# Altium schematic symbol library AMDC.SchLib: 119 symbols
Pins are listed as number, name and electrical type; pins without a type are passive.

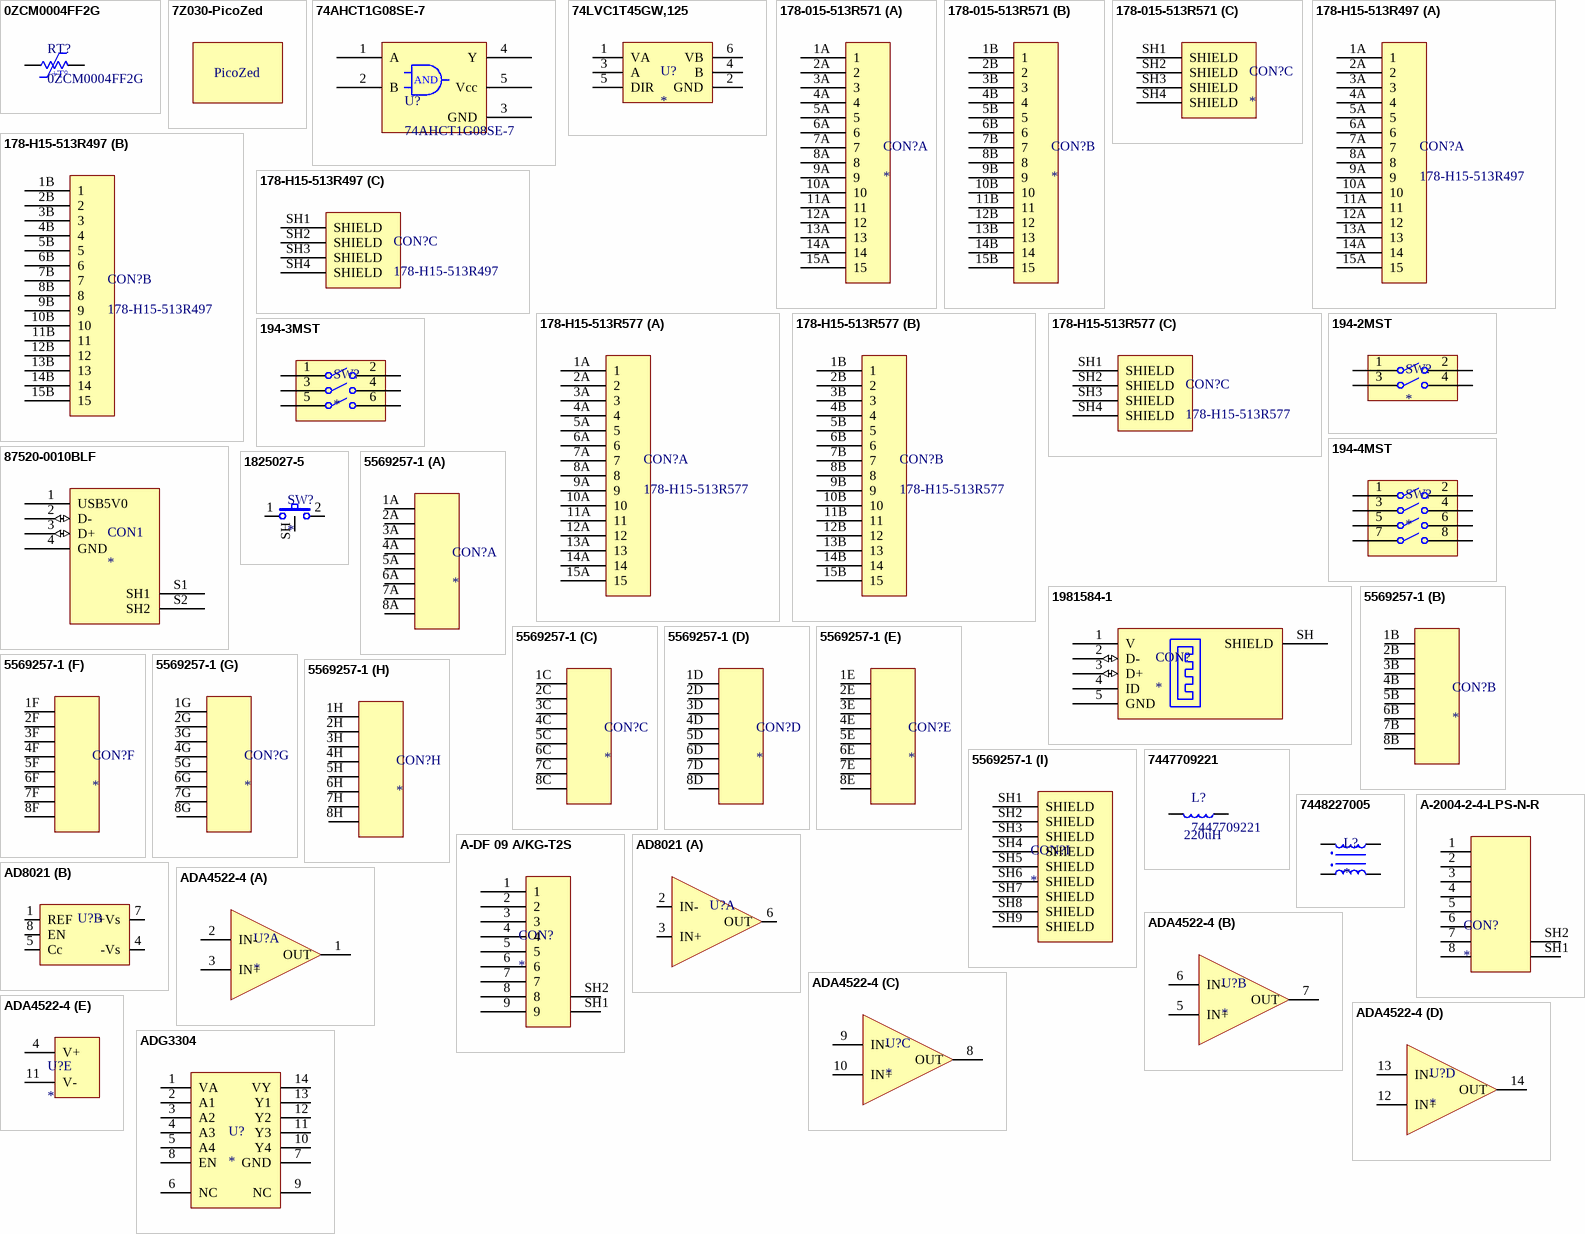
[diagram p0: symbols 0ZCM0004FF2G to ADG3304]

## 0ZCM0004FF2G
designator RT?
PTC RESET FUSE 24V 40MA 0603; Supplier 1: Digi-Key; Supplier Part Number 1: 507-0ZCM0004FF2GCT-ND
footprint PTCC1607X06N (Chip PTC, 2-Leads, Body 1.60x0.73mm, IPC Medium Density)
pins: 1, 2
text: +T°

## 7Z030-PicoZed
designator *  (value not drawn)  (mechanical)
PicoZed 7030 SOM Evaluation Board with ARM Cortex-A9 1 x 10/100/1000 eMMC/QSPI Flash; Supplier 1: Newark; Supplier Part Number 1: 68AH8094
text: PicoZed

## 74AHCT1G08SE-7
designator U?
IC GATE AND 1CH 2-INP SOT353; Supplier 1: Digi-Key; Supplier Part Number 1: 74AHCT1G08SE-7DICT-ND
footprint SOT65P210X110-5N (SOT23, 5-Leads, Body 2.00x2.10mm, Pitch 0.65mm, IPC Medium Density)
pins: 1 A, 2 B, 3 GND, 4 Y, 5 Vcc
text: AND

## 74LVC1T45GW,125
designator U?
TXRX XLATING DUAL 3ST 6TSSOP; Supplier 1: Digi-Key; Supplier Part Number 1: 1727-4560-2-ND
footprint SOT65P210X110-6N (SOT23, 6-Leads, Body 2.00x2.10mm, Pitch 0.65mm, IPC Medium Density)
pins: 1 VA, 2 GND, 3 A, 4 B, 5 DIR, 6 VB

## 178-015-513R571
designator CON?
CONN D-SUB RCPT 15POS R/A SLDR; Manufacturer: NorComp; Manufacturer Part Number: 178-015-513R571; Plating: Tin; Body Material: Steel; Current Rating: 5A; Gender: Female to Female; Connector Type: D-Sub,Receptacle,Signal; Number of Positions: 15; Supplier 1: Digi-Key; Stock 1: 6279; Pricing 1: 1=9.34, 10=8.932, 25=8.12, 50=7.714, 100=7.511, 250=6.699, 500=6.293, 1000=5.5622 (USD); Mount: Through Hole,Edge; Colour: Black; Contact Plating: Gold; Shell Material: Tin; Contact Material: Brass; Housing Colour: Black; Housing Material: Nylon; Material: Metal; Min Operating Temperature: -55°C; Max Operating Temperature: 105°C; Package Quantity: 35; Packaging: Tray; Termination: Through Hole; Number of Contacts: 15; Number of Rows: 2; Features: Shielded; Length: 39mm; Height: 31.8mm; Width: 25.4mm; Lead Free: Lead Free; Flammability Rating: UL94 V-0; REACH SVHC: No SVHC; ComponentLink1URL: https://datasheet.ciiva.com/16342/178-yyy-513r571-16342488.pdf; ComponentLink1Description: https://datasheet.ciiva.com/16342/178-yyy-513r571-16342488.pdf; ComponentLink2URL: https://datasheet.ciiva.com/656/178-yyy-513r571-656074.pdf; ComponentLink2Description: https://datasheet.ciiva.com/656/178-yyy-513r571-656074.pdf; Supplier Part Number 1: 1115FFE-ND
footprint 178-015-513R571 (CONN D-SUB RCPT 15POS R/A SLDR)
part A pins: 1A 1, 2A 2, 3A 3, 4A 4, 5A 5, 6A 6, 7A 7, 8A 8, 9A 9, 10A 10, 11A 11, 12A 12, 13A 13, 14A 14, 15A 15
part B pins: 1B 1, 2B 2, 3B 3, 4B 4, 5B 5, 6B 6, 7B 7, 8B 8, 9B 9, 10B 10, 11B 11, 12B 12, 13B 13, 14B 14, 15B 15
part C pins: SH1 SHIELD, SH2 SHIELD, SH3 SHIELD, SH4 SHIELD

## 178-H15-513R497
designator CON?
CONN D-SUB RCPT/RCPT 15/15POS RA; Supplier 1: Digi-Key; Supplier Part Number 1: NOR1832-ND
footprint 178-H15-513R497 (CONN D-SUB RCPT/RCPT 15/15POS RA)
part A pins: 1A 1, 2A 2, 3A 3, 4A 4, 5A 5, 6A 6, 7A 7, 8A 8, 9A 9, 10A 10, 11A 11, 12A 12, 13A 13, 14A 14, 15A 15
part B pins: 1B 1, 2B 2, 3B 3, 4B 4, 5B 5, 6B 6, 7B 7, 8B 8, 9B 9, 10B 10, 11B 11, 12B 12, 13B 13, 14B 14, 15B 15
part C pins: SH1 SHIELD, SH2 SHIELD, SH3 SHIELD, SH4 SHIELD

## 178-H15-513R577
designator CON?
CONN D-SUB PLUG 15POS R/A SLDR; Supplier 1: Digi-Key; Supplier Part Number 1: NOR1831-ND
footprint 178-H15-513R577 (CONN D-SUB PLUG 15POS R/A SLDR)
part A pins: 1A 1, 2A 2, 3A 3, 4A 4, 5A 5, 6A 6, 7A 7, 8A 8, 9A 9, 10A 10, 11A 11, 12A 12, 13A 13, 14A 14, 15A 15
part B pins: 1B 1, 2B 2, 3B 3, 4B 4, 5B 5, 6B 6, 7B 7, 8B 8, 9B 9, 10B 10, 11B 11, 12B 12, 13B 13, 14B 14, 15B 15
part C pins: SH1 SHIELD, SH2 SHIELD, SH3 SHIELD, SH4 SHIELD

## 194-2MST
designator SW?
SWITCH PIANO DIP SPST 50MA 24V; Supplier 1: Digi-Key; Supplier Part Number 1: CT1942MST-ND
footprint 194-2MST (SWITCH PIANO DIP SPST 50MA 24V)
pins: 1, 2, 3, 4

## 194-3MST
designator SW?
SWITCH PIANO DIP SPST 50MA 24V; Supplier 1: Digi-Key; Supplier Part Number 1: CT1943MST-ND
footprint 194-3MST (SWITCH PIANO DIP SPST 50MA 24V)
pins: 1, 2, 3, 4, 5, 6

## 194-4MST
designator SW?
SWITCH PIANO DIP SPST 50MA 24V; Supplier 1: Digi-Key; Supplier Part Number 1: CT1944MST-ND
footprint 194-4MST (SWITCH PIANO DIP SPST 50MA 24V)
pins: 1, 2, 3, 4, 5, 6, 7, 8

## 87520-0010BLF
designator CON1
USB - A USB 2.0 Receptacle Connector 4 Position Through Hole, Right Angle; Supplier 1: Digi-Key; Supplier Part Number 1: 609-1045-ND
footprint 87520-0010BLF
pins: 1 USB5V0, 2 D- (io), 3 D+ (io), 4 GND, S1 SH1, S2 SH2

## 1825027-5
designator SW?
SWITCH TACTILE SPST-NO 0.05A 24V; Supplier 1: Digi-Key; Supplier Part Number 1: 450-1662-ND
footprint 1825027-5 (SWITCH TACTILE SPST-NO 0.05A 24V)
pins: 1, 2, SH

## 1981584-1
designator CON?
CONN RCPT MICRO USB TYPE AB; Supplier 1: Digi-Key; Supplier Part Number 1: A97799TR-ND
footprint 1981584-1 (CONN RCPT MICRO USB TYPE AB)
pins: 1 V, 2 D- (io), 3 D+ (io), 4 ID, 5 GND, SH SHIELD

## 5569257-1
designator CON?
CONN MOD JACK 8P8C R/A SHIELDED; Manufacturer: TE Connectivity; Manufacturer Part Number: 5569257-1; Max Voltage Rating (AC): 150V; Number of Ports: 8; Number of Positions Loaded: 64; Gender: Female; Direction: Up and Down; Keyed: No; PCB Mounting Orientation: Right Angle; Pitch: 2.54mm; Tail Length: 3.56mm; PCB Thickness: 1.57mm; Approvals: UL,CSA; Supplier 1: Digi-Key; Supplier Part Number 1: A115463-ND; Stock 1: 80; Pricing 1: 1=23.07, 10=20.825, 25=19.952, 50=18.705, 100=18.0815, 250=17.08392, 500=16.5851 (USD); Contact Material: Bronze; Contact Plating: Gold; Housing Colour: Black; Housing Material: Polyester; Min Operating Temperature: -40°C; Max Operating Temperature: 80°C; Termination: Solder; Orientation: Right Angle; Package Quantity: 10; Packaging: Tray; Number of Rows: 2; Shielding: Shielded; Number of Positions: 8; Number of Contacts: 64; Connector Type: Jack; Length: 59.18mm; Width: 59.18mm; Depth: 28.7mm; Radiation Hardening: No; Lead Free: Lead Free; ELV: Compliant; Flammability Rating: UL94 V-0; ComponentLink1URL: https://datasheet.ciiva.com/18490/eng-cd-5569257-a1-18490850.pdf; ComponentLink1Description: https://datasheet.ciiva.com/18490/eng-cd-5569257-a1-18490850.pdf; ComponentLink2URL: https://datasheet.ciiva.com/687/eng-cd-5569257-a1-687411.pdf; ComponentLink2Description: https://datasheet.ciiva.com/687/eng-cd-5569257-a1-687411.pdf; ComponentLink3URL: https://datasheet.ciiva.com/16398/5569257-1-16398308.pdf; ComponentLink3Description: https://datasheet.ciiva.com/16398/5569257-1-16398308.pdf; ComponentLink4URL: https://datasheet.ciiva.com/14619/70042889-14619676.pdf; ComponentLink4Description: https://datasheet.ciiva.com/14619/70042889-14619676.pdf
footprint 5569257-1 (CONN MOD JACK 8P8C R/A SHIELDED)
part A pins: 1A 79, 2A 79, 3A 79, 4A 79, 5A 79, 6A 79, 7A 79, 8A 79
part B pins: 1B 79, 2B 79, 3B 79, 4B 79, 5B 79, 6B 79, 7B 79, 8B 79
part C pins: 1C 79, 2C 79, 3C 79, 4C 79, 5C 79, 6C 79, 7C 79, 8C 79
part D pins: 1D 79, 2D 79, 3D 79, 4D 79, 5D 79, 6D 79, 7D 79, 8D 79
part E pins: 1E 79, 2E 79, 3E 79, 4E 79, 5E 79, 6E 79, 7E 79, 8E 79
part F pins: 1F 79, 2F 79, 3F 79, 4F 79, 5F 79, 6F 79, 7F 79, 8F 79
part G pins: 1G 79, 2G 79, 3G 79, 4G 79, 5G 79, 6G 79, 7G 79, 8G 79
part H pins: 1H 79, 2H 79, 3H 79, 4H 79, 5H 79, 6H 79, 7H 79, 8H 79
part I pins: SH1 SHIELD, SH2 SHIELD, SH3 SHIELD, SH4 SHIELD, SH5 SHIELD, SH6 SHIELD, SH7 SHIELD, SH8 SHIELD, SH9 SHIELD

## 7447709221
designator L?  value 220uH
FIXED IND 220UH 1.8A 300 MOHM; Supplier Part Number 1: 732-1696-1-ND; Supplier 1: Digi-Key
footprint 7447709221 (FIXED IND 220UH 1.8A 300 MOHM)
pins: 1, 2

## 7448227005
designator L?
CMC 450UH 6.5A 2LN TH; Supplier 1: Digi-Key; Supplier Part Number 1: 732-3883-ND
footprint 7448227005 (CMC 450UH 6.5A 2LN TH)
pins: 1, 2, 3, 4

## A-2004-2-4-LPS-N-R
designator CON?
CONN MOD JACK 8P8C R/A SHIELDED; Supplier 1: Digi-Key; Supplier Part Number 1: AE10387-ND
footprint A-2004-2-4-LPS-N-R (CONN MOD JACK 8P8C R/A SHIELDED)
pins: 1 79, 2 79, 3 79, 4 79, 5 79, 6 79, 7 79, 8 79, SH1 79, SH2 79

## A-DF 09 A/KG-T2S
designator CON?
CONN D-SUB RCPT 9POS R/A SOLDER; Supplier 1: Digi-Key; Supplier Part Number 1: AE10921-ND
footprint A-DF 09 A/KG-T2S (CONN D-SUB RCPT 9POS R/A SOLDER)
pins: 1, 2, 3, 4, 5, 6, 7, 8, 9, SH1 79, SH2 79

## AD8021
designator U?
IC OPAMP VFB 560MHZ 8MSOP; Supplier 1: Digi-Key; Supplier Part Number 1: AD8021ARZ-ND
footprint SOIC8_N (8-Pin Small Outline Integrated Circuit Package (SOIC8), IPC Medium Density)
part A pins: 2 IN-, 3 IN+, 6 OUT
part B pins: 1 REF, 4 -Vs, 5 Cc, 7 +Vs, 8 EN

## ADA4522-4
designator U?
Manufacturer: Analog Devices; Manufacturer Part Number: ADA4522-4ARUZ-RL; Number of Circuits: 4; Slew Rate: 1.7V/µs; Gain Bandwidth Product: 2.7MHz; Input Bias Current: 50pA; Input Offset Voltage (Vos): 1.5uV; Operating Supply Current: 830uA; Output Current per Channel: 32mA; Max Dual Supply Voltage: 27.5V; Voltage Gain: 137dB; Common Mode Rejection Ratio: 140dB; Power Supply Rejection Ratio (PSRR): 150dB; Min Supply Voltage: 4.5V; Min Dual Supply Voltage: 2.25V; Max Supply Voltage: 55V; Mount: Surface Mount; Case/Package: TSSOP; Number of Pins: 14; Contact Plating: Tin,Matte; Min Operating Temperature: -40°C; Max Operating Temperature: 125°C; Packaging: Tape and Reel; Lead Free: Contains Lead; ComponentLink1URL: http://www.mouser.com/ds/2/609/ADA4522-1_4522-2_4522-4-914641.pdf; ComponentLink1Description: http://www.mouser.com/ds/2/609/ADA4522-1_4522-2_4522-4-914641.pdf; ComponentLink2URL: http://www.analog.com/media/en/technical-documentation/data-sheets/ADA4522-1_4522-2_4522-4.pdf; ComponentLink2Description: http://www.analog.com/media/en/technical-documentation/data-sheets/ADA4522-1_4522-2_4522-4.pdf; Supplier 1: Digi-Key; Stock 1: 1071; Pricing 1: 1=8.7, 10=7.861, 100=6.5086, 500=5.66758, 1000=4.93628 (USD); Supplier Part Number 1: ADA4522-4ARUZ-RLCT-ND
footprint TSSOP-14
part A pins: 1 OUT, 2 IN-, 3 IN+
part B pins: 5 IN+, 6 IN-, 7 OUT
part C pins: 8 OUT, 9 IN-, 10 IN+
part D pins: 12 IN+, 13 IN-, 14 OUT
part E pins: 4 V+, 11 V-

## ADG3304
designator U?
IC XLATR BIDIR V-LVL 4CH 14TSSOP; Supplier 1: Digi-Key; Supplier Part Number 1: ADG3304BRUZ-REEL7-ND
pins: 1 VA, 2 A1, 3 A2, 4 A3, 5 A4, 6 NC, 7 GND, 8 EN, 9 NC, 10 Y4, 11 Y3, 12 Y2, 13 Y1, 14 VY

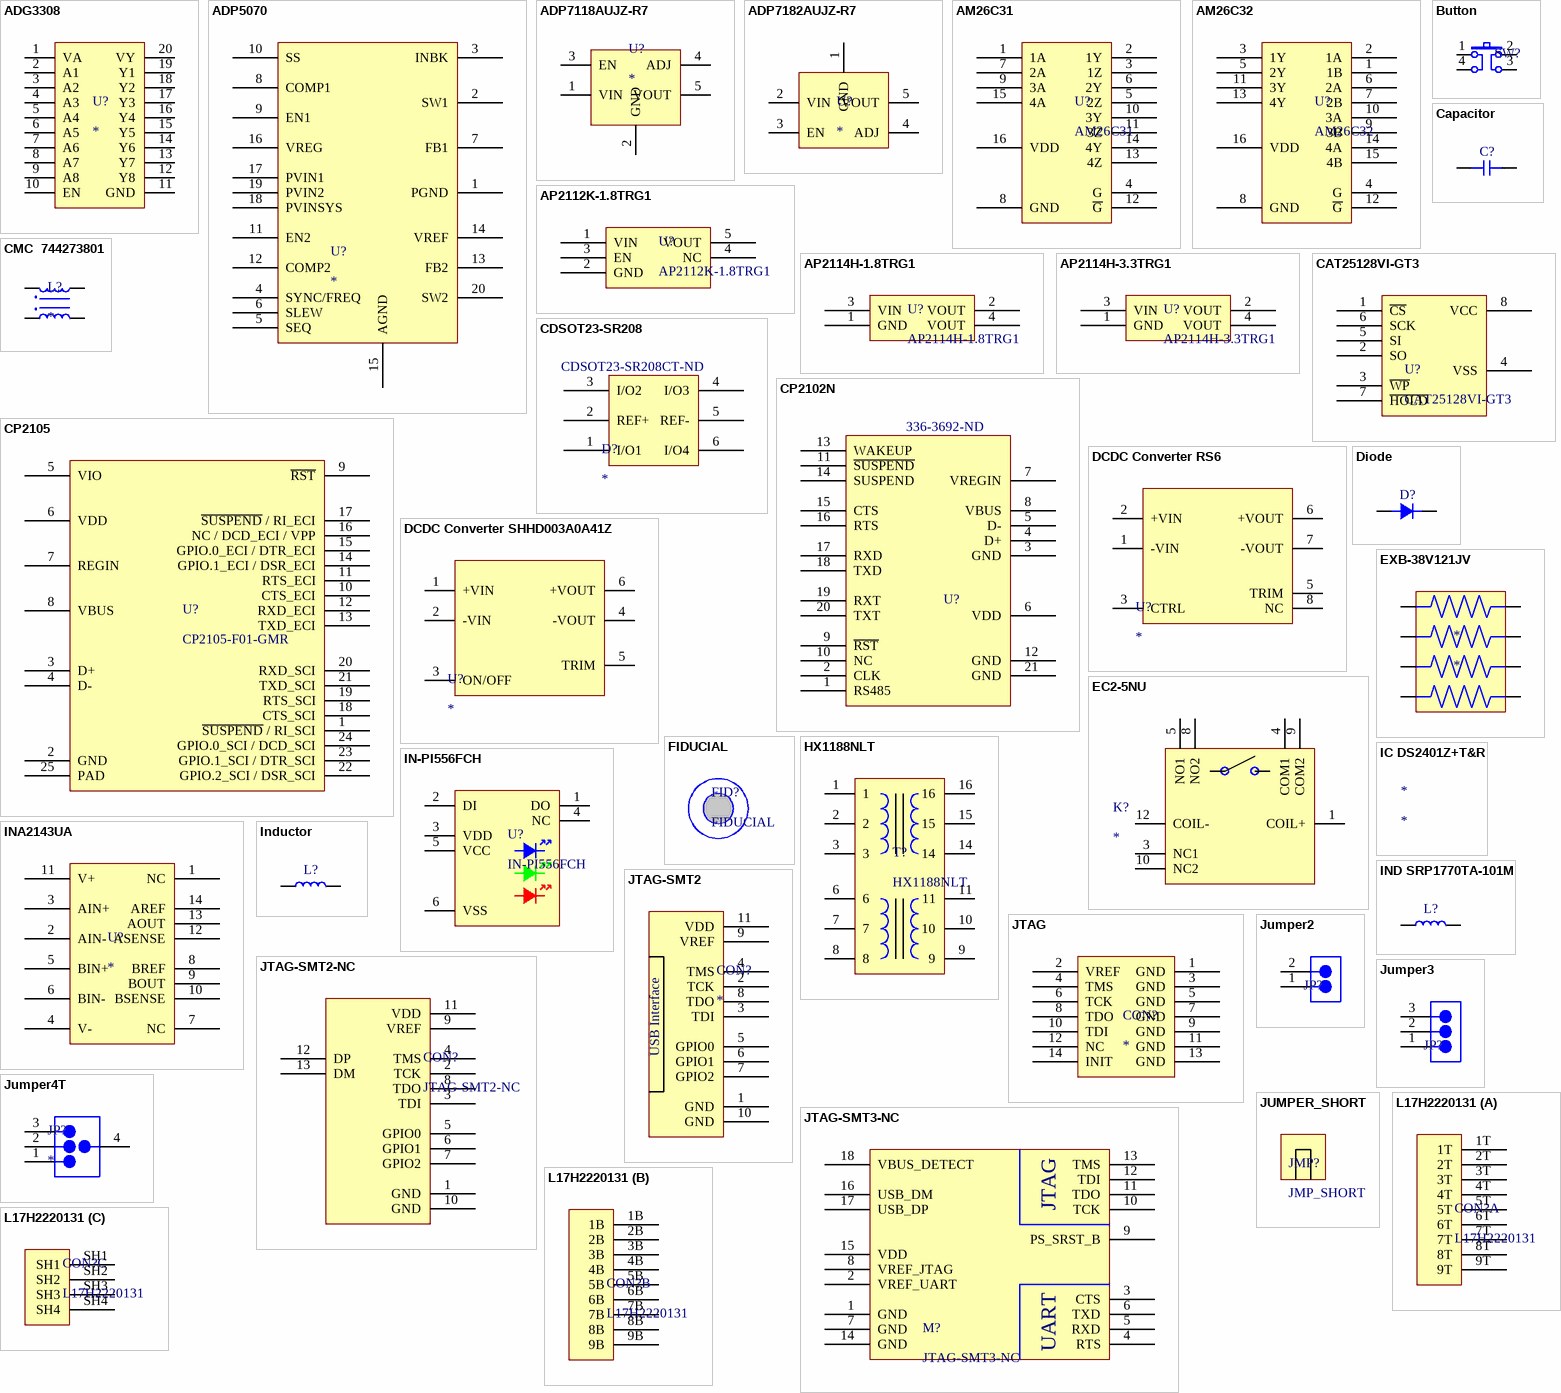
[diagram p1: symbols ADG3308 to L17H2220131]

## ADG3308
designator U?
IC XLATOR 8CH 1.2-5.5V 20TSSOP; Supplier 1: Digi-Key; Supplier Part Number 1: ADG3308BRUZ-ND
footprint TSSOP-20
pins: 1 VA, 2 A1, 3 A2, 4 A3, 5 A4, 6 A5, 7 A6, 8 A7, 9 A8, 10 EN, 11 GND, 12 Y8, 13 Y7, 14 Y6, 15 Y5, 16 Y4, 17 Y3, 18 Y2, 19 Y1, 20 VY

## ADP5070
designator U?
pins: 1 PGND, 2 SW1, 3 INBK, 4 SYNC/FREQ, 5 SEQ, 6 SLEW, 7 FB1, 8 COMP1, 9 EN1, 10 SS, 11 EN2, 12 COMP2, 13 FB2, 14 VREF, 15 AGND, 16 VREG, 17 PVIN1, 18 PVINSYS, 19 PVIN2, 20 SW2

## ADP7118AUJZ-R7
designator U?
IC REG LINEAR 200MA TSOT23-5; Supplier 1: Digi-Key; Supplier Part Number 1: ADP7118AUJZ-R7-ND
footprint TSOT-23 (5-Lead Plastic TSOT-23)
pins: 1 VIN, 2 GND, 3 EN, 4 ADJ, 5 VOUT

## ADP7182AUJZ-R7
designator U?
IC REG LINEAR 200MA 5TSOT; Supplier 1: Digi-Key; Supplier Part Number 1: ADP7182AUJZ-R7-ND
footprint TSOT-23 (5-Lead Plastic TSOT-23)
pins: 1 GND, 2 VIN, 3 EN, 4 ADJ, 5 VOUT

## AM26C31
designator U?
IC DRIVER 4/0 16TSSOP; Supplier 1: Digi-Key; Supplier Part Number 1: 296-30087-1-ND
footprint TSOP65P640X120-16N (TSOP, 16-Leads, Body 5.00x4.40mm, Pitch 0.65mm, IPC Medium Density)
pins: 1 1A, 2 1Y, 3 1Z, 4 G, 5 2Z, 6 2Y, 7 2A, 8 GND, 9 3A, 10 3Y, 11 3Z, 12 ~{G}, 13 4Z, 14 4Y, 15 4A, 16 VDD

## AM26C32
designator U?
IC RCVR RS422 QUAD DIFF 16TSSOP; Supplier 1: Digi-Key; Supplier Part Number 1: 296-30088-1-ND
footprint TSOP65P640X120-16N (TSOP, 16-Leads, Body 5.00x4.40mm, Pitch 0.65mm, IPC Medium Density)
pins: 1 1B, 2 1A, 3 1Y, 4 G, 5 2Y, 6 2A, 7 2B, 8 GND, 9 3B, 10 3A, 11 3Y, 12 ~{G}, 13 4Y, 14 4A, 15 4B, 16 VDD

## AP2112K-1.8TRG1
designator U?
IC REG LINEAR 1.8V 600MA SOT25; Supplier 1: Digi-Key; Supplier Part Number 1: AP2112K-1.8TRG1DICT-ND
footprint SOT95P280X145-5N (SOT23, 5-Leads, Body 2.90x2.80mm, Pitch 0.95mm, IPC Medium Density)
pins: 1 VIN, 2 GND, 3 EN, 4 NC, 5 VOUT

## AP2114H-1.8TRG1
designator U?
IC REG LINEAR 1.8V 1A SOT223; Supplier 1: Digi-Key; Supplier Part Number 1: AP2114H-1.8TRG1DICT-ND
footprint SOT230P700X180-4N (SOT223, 4-Leads, Body 6.50x7.00mm (avg), Pitch 2.30mm, IPC Medium Density)
pins: 1 GND, 2 VOUT, 3 VIN, 4 VOUT

## AP2114H-3.3TRG1
designator U?
IC REG LINEAR 3.3V 1A SOT223; Supplier 1: Digi-Key; Supplier Part Number 1: AP2114H-3.3TRG1DICT-ND
footprint SOT230P700X180-4N (SOT223, 4-Leads, Body 6.50x7.00mm (avg), Pitch 2.30mm, IPC Medium Density)
pins: 1 GND, 2 VOUT, 3 VIN, 4 VOUT

## Button
designator SW?  (value not drawn)
pins: 1 74, 2 74, 3 74, 4 74

## Capacitor
designator C?  (value not drawn)
Capacitor
simulation model CAP (Capacitor)
footprint 0603-CAP
pins: 1, 2

## CAT25128VI-GT3
designator U?
IC EEPROM 128K SPI 20MHZ 8SOIC; Supplier 1: Digi-Key; Supplier Part Number 1: CAT25128VI-GT3OSCT-ND
footprint SOIC127P600X175-8N (SOIC, 8-Leads, Body 4.90x3.90mm, Pitch 1.27mm, IPC Medium Density)
pins: 1 ~{CS}, 2 SO, 3 ~{WP}, 4 VSS, 5 SI, 6 SCK, 7 ~{HOLD}, 8 VCC

## CDSOT23-SR208
designator D?  Supplier Part Number 1: CDSOT23-SR208CT-ND
TVS DIODE 20VWM SMD; Supplier 1: Digi-Key
footprint SOT23-6 (SOT-457/SC-74; 6 Leads; Body 3 x 3 mm, inc. leads (LxW max))
pins: 1 I/O1, 2 REF+, 3 I/O2, 4 I/O3, 5 REF-, 6 I/O4

## CMC  744273801
designator L?
CMC 450UH 6.5A 2LN TH; Manufacturer: Wurth Electronics; Manufacturer Part Number: 744273801; Core Material: Ferrite; Impedance: 800R; Inductance Tolerance: 25%; Number of Lines: 2; Inductance: 9uh; Resistance: 11mR; Current Rating: 3.5A; Test Frequency: 100kHz; Voltage Rating (DC): 80V; Supplier 1: Digi-Key; Stock 1: 3927; Pricing 1: 1=3.37, 10=3.125, 50=2.822, 100=2.722, 500=2.52 (USD); Mount: Surface Mount; Case/Package: SMD/SMT; Number of Pins: 4; Min Operating Temperature: -40°C; Max Operating Temperature: 125°C; Packaging: Tape and Reel; Package Quantity: 1000; Tolerance: 25%; Current: 3.5A; DC Resistance (DCR): 11mR; Max DC Current: 3.5A; Termination: SMD/SMT; Series Resistance: 11mR; Length: 9.5mm; Height: 5.3mm; Width: 8.3mm; Depth: 8.3mm; REACH SVHC: No SVHC; ComponentLink1URL: https://datasheet.ciiva.com/6215/744273801-6215152.pdf; ComponentLink1Description: https://datasheet.ciiva.com/6215/744273801-6215152.pdf; ComponentLink2URL: https://datasheet.ciiva.com/6048/1735681-6048514.pdf; ComponentLink2Description: https://datasheet.ciiva.com/6048/1735681-6048514.pdf; ComponentLink3URL: https://datasheet.ciiva.com/6215/744273801-6215157.pdf; ComponentLink3Description: https://datasheet.ciiva.com/6215/744273801-6215157.pdf; ComponentLink4URL: https://datasheet.ciiva.com/7764/1735681-7764966.pdf; ComponentLink4Description: https://datasheet.ciiva.com/7764/1735681-7764966.pdf; ComponentLink5URL: https://datasheet.ciiva.com/11800/0900766b80f886be-11800844.pdf; ComponentLink5Description: https://datasheet.ciiva.com/11800/0900766b80f886be-11800844.pdf; ComponentLink6URL: https://datasheet.ciiva.com/14123/744273801-eng-tds-14123645.pdf; ComponentLink6Description: https://datasheet.ciiva.com/14123/744273801-eng-tds-14123645.pdf; ComponentLink7URL: https://datasheet.ciiva.com/4952/744273801-77788-4952319.pdf; ComponentLink7Description: https://datasheet.ciiva.com/4952/744273801-77788-4952319.pdf; ComponentLink8URL: https://datasheet.ciiva.com/48690/001087412-da-01-ml-we-sl5-hc-stromk-smd-lin-fil-74427-de-en-48690507.pdf; ComponentLink8Description: https://datasheet.ciiva.com/48690/001087412-da-01-ml-we-sl5-hc-stromk-smd-lin-fil-74427-de-en-48690507.pdf; Supplier Part Number 1: 732-2215-6-ND
footprint CMC 744273801 (CMC 9UH 3.5A 2LN 800 OHM SMD)
pins: 1, 2, 3, 4

## CP2102N
designator U?  Supplier Part Number 1: 336-3692-ND
IC BRIDGE USB TO UART 20QFN; Supplier 1: Digi-Key
footprint QFN20
pins: 1 RS485, 2 CLK, 3 GND, 4 D+, 5 D-, 6 VDD, 7 VREGIN, 8 VBUS, 9 ~{RST}, 10 NC, 11 ~{SUSPEND}, 12 GND, 13 WAKEUP, 14 SUSPEND, 15 CTS, 16 RTS, 17 RXD, 18 TXD, 19 RXT, 20 TXT, 21 GND

## CP2105
designator U?, comment CP2105-F01-GMR
IC SGL USB-DL UART BRIDGE 24QFN; Supplier 1: Digi-Key; Supplier Part Number 1: CP2105-F01-GMRCT-ND
footprint QFN50P400X400X80_HS-25N (QFN, 24-Leads, Body 4.00x4.00mm, Pitch 0.50mm, Thermal Pad 2.68x2.68mm, IPC Medium Density)
pins: 1 ~{SUSPEND} / RI_SCI, 2 GND, 3 D+, 4 D-, 5 VIO, 6 VDD, 7 REGIN, 8 VBUS, 9 ~{RST}, 10 CTS_ECI, 11 RTS_ECI, 12 RXD_ECI, 13 TXD_ECI, 14 GPIO.1_ECI / DSR_ECI, 15 GPIO.0_ECI / DTR_ECI, 16 NC / DCD_ECI / VPP, 17 ~{SUSPEND} / RI_ECI, 18 CTS_SCI, 19 RTS_SCI, 20 RXD_SCI, 21 TXD_SCI, 22 GPIO.2_SCI / DSR_SCI, 23 GPIO.1_SCI / DTR_SCI, 24 GPIO.0_SCI / DCD_SCI, 25 PAD

## DCDC Converter RS6
designator U?
Recom RS6
footprint RS6 DCDC
pins: 1 -VIN, 2 +VIN, 3 CTRL, 5 TRIM, 6 +VOUT, 7 -VOUT, 8 NC

## DCDC Converter SHHD003A0A41Z
designator U?
DC/DC CONVERTER 15W 5V 3A; Manufacturer: GE; Manufacturer Part Number: SHHD003A0A41Z; Number of Outputs: 1; Isolation: Isolated; Efficiency: 87%; Isolation Voltage: 2.25kV; Min Input Voltage: 18V; Max Input Voltage: 75V; Supplier 1: Digi-Key; Stock 1: 1272; Pricing 1: 1=18.55, 5=18.404, 10=18.261, 25=17.9756, 50=17.1196, 100=15.6929, 250=15.40756, 500=15.1793 (USD); Mount: Through Hole; Case/Package: Module; Number of Pins: 6; Weight: 0.282192oz; Min Operating Temperature: -40°C; Max Operating Temperature: 85°C; Output Current: 3A; Output Voltage: 5V; Packaging: Bulk; Package Quantity: 75; Output Power: 15W; Voltage - Output 1: 5V; Current - Output 1: 3A; Max Output Current: 3A; Max Power Dissipation: 15W; Features: UVLO,OVP; Length: 1.1inch; Height: 0.34inch; Depth: 24.4mm; Width: 0.96inch; ComponentLink1URL: https://datasheet.ciiva.com/13119/shhd003a0a-13119248.pdf; ComponentLink1Description: https://datasheet.ciiva.com/13119/shhd003a0a-13119248.pdf; ComponentLink2URL: https://datasheet.ciiva.com/6224/shhd003a0a-6224821.pdf; ComponentLink2Description: https://datasheet.ciiva.com/6224/shhd003a0a-6224821.pdf; Supplier Part Number 1: 555-1311-ND
footprint DCDC SHHD003A0A41-SRZ (DC/DC CONVERTER 15W 5V 3A)
pins: 1 +VIN, 2 -VIN, 3 ON/OFF, 4 -VOUT, 5 TRIM, 6 +VOUT

## Diode
designator D?  (value not drawn)
simulation model DIODE (Default Diode)
pins: 54 A, 55 C

## EC2-5NU
designator K?
RELAY GEN PURPOSE DPDT 2A 250V; Supplier 1: Digi-Key; Supplier Part Number 1: 399-11052-5-ND
footprint EC2-5NU (RELAY GEN PURPOSE DPDT 2A 250V)
pins: 1 COIL+, 3 NC1, 4 COM1, 5 NO1, 8 NO2, 9 COM2, 10 NC2, 12 COIL-

## EXB-38V121JV
designator *
Res Thick Film Array 120 Ohm 5% ±200ppm/C ISOL 8-Pin 1206(4 X 0603) Convex SMD Automotive T/R; Manufacturer: Panasonic; Manufacturer Part Number: EXB-38V121JV; Value: 120R; Voltage Rating: 50V; Circuit Type: Isolated; Number of Resistors: 4; Power Per Element: 62.5mW; Temperature Coefficient: 200ppm/°C; Number of Contacts: 8; Voltage Rating (DC): 100V; Supplier: Digi-Key; Supplier Part Number: Y9121CT-ND; RoHS: Yes; Category: Resistor Arrays; Stock: 129474; Pricing: 1=0.13, 10=0.113, 25=0.078, 50=0.0608, 100=0.0434, 250=0.03388, 500=0.02692, 1000=0.01911 (USD); Mounting Technology: Surface Mount; Case/Package: 1206; Pins: 8; Case Code (Metric): 3216; Case Code (Imperial): 1206; Weight: 7.1E-05oz; Min Operating Temperature: -55°C; Max Operating Temperature: 125°C; Package Quantity: 1; Packaging: Tape and Reel; Tolerance: 5%; Termination: SMD/SMT; Series: EXB; Technology: THICK FILM; Length: 0.126inch; Width: 1.6mm; Height: 0.024inch; Terminal Pitch: 0.8mm; Radiation Hardening: No; Lead Free: Lead Free; RoHS Compliant: Yes; ComponentLink1URL: https://datasheet.ciiva.com/30227/aoc0000ce1-30227247.pdf?src-supplier=Onlinecomponents.com; ComponentLink1Description: https://datasheet.ciiva.com/30227/aoc0000ce1-30227247.pdf?src-supplier=Onlinecomponents.com
footprint EXB-38V121JV
pins: 1, 2, 3, 4, 5, 6, 7, 8

## FIDUCIAL
designator FID?  (no BOM)
footprint FID_1mm

## HX1188NLT
designator T?
XFRMR MAGNETIC 1PORT 1:1 10/100; Supplier 1: Digi-Key; Supplier Part Number 1: 553-1536-1-ND
footprint HX1188NLT (XFRMR MAGNETIC 1PORT 1:1 10/100)
pins: 1, 2, 3, 6, 7, 8, 9, 10, 11, 14, 15, 16

## IC DS2401Z+T&R
designator *

## IN-PI556FCH
designator U?
LED RGB 5050 SMD; Supplier 1: Digi-Key; Supplier Part Number 1: 1830-1107-1-ND
footprint IN-PI556FCH (LED RGB 5050 SMD)
pins: 1 DO, 2 DI, 3 VDD, 4 NC, 5 VCC, 6 VSS

## INA2143UA
designator U?
IC OPAMP DIFF 150KHZ 14SOIC; Supplier 1: Digi-Key; Supplier Part Number 1: INA2143UA-ND
footprint SOIC16_N (SOIC, 16-Leads, Body 9.9x3.9mm, Pitch 1.27mm, IPC Medium Density)
footprint SOIC127P600X175-14N (SOIC, 14-Leads, Body 8.65x3.90mm, Pitch 1.27mm, IPC Medium Density)
pins: 1 NC, 2 AIN-, 3 AIN+, 4 V-, 5 BIN+, 6 BIN-, 7 NC, 8 BREF, 9 BOUT, 10 BSENSE, 11 V+, 12 ASENSE, 13 AOUT, 14 AREF

## IND SRP1770TA-101M
designator L?  (value not drawn)
FIXED IND 100UH 5.3A 118 MOHM; Manufacturer: Bourns; Manufacturer Part Number: SRP1770TA-101M; Core Material: Carbonyl Powder; Saturation Current: 6.5A; Shielding: Shielded; DC Resistance (DCR): 118mR; Self Resonant Frequency: 2MHz; Test Frequency: 100kHz; Tolerance: 20%; Supplier 1: Digi-Key; Stock 1: 2524; Pricing 1: 1=4.1, 10=3.755, 100=2.4581 (USD); Mount: Surface Mount; Case/Package: Nonstandard; Min Operating Temperature: -40°C; Max Operating Temperature: 150°C; Packaging: Cut Tape; Composition: Wirewound; Inductance: 100uh; Current Rating: 5.3A; RMS Current (Irms): 5.3A; Inductance Tolerance: 20%; Length: 0.666inch; Width: 0.666inch; Height - Seated (Max): 0.276inch; REACH SVHC: No SVHC; ComponentLink1URL: http://www.farnell.com/datasheets/1955470.pdf; ComponentLink1Description: http://www.farnell.com/datasheets/1955470.pdf; ComponentLink2URL: http://www.bourns.com/docs/Product-Datasheets/SRP1770TA.pdf; ComponentLink2Description: http://www.bourns.com/docs/Product-Datasheets/SRP1770TA.pdf; Supplier Part Number 1: SRP1770TA-101MDKR-ND
simulation model Model Name (Model Description)
footprint IND - SRP1770TA-101M (FIXED IND 100UH 5.3A 118 MOHM)
pins: 1, 2

## Inductor
designator L?  (value not drawn)
simulation model Model Name (Model Description)
pins: 52, 53

## JTAG
designator CON?
footprint PIN_HEADER_2x7
pins: 1 GND, 2 VREF, 3 GND, 4 TMS, 5 GND, 6 TCK, 7 GND, 8 TDO, 9 GND, 10 TDI, 11 GND, 12 NC, 13 GND, 14 INIT

## JTAG-SMT2
designator CON?
footprint JTAG-SMT2
pins: 1 GND, 2 TCK, 3 TDI, 4 TMS, 5 GPIO0, 6 GPIO1, 7 GPIO2, 8 TDO, 9 VREF, 10 GND, 11 VDD
text: USB Interface

## JTAG-SMT2-NC
designator CON?
MOD PROGRAMMING JTAG-SMT2-NC; Supplier 1: Digi-Key; Supplier Part Number 1: 1286-1192-ND
footprint JTAG-SMT2-NC
pins: 1 GND, 2 TCK, 3 TDI, 4 TMS, 5 GPIO0, 6 GPIO1, 7 GPIO2, 8 TDO, 9 VREF, 10 GND, 11 VDD, 12 DP, 13 DM

## JTAG-SMT3-NC
designator M?
JTAG-SMT3-NC: SURFACE-MOUNT PROG; Supplier 1: Digi-Key; Supplier Part Number 1: 1286-1196-ND
footprint JTAG-SMT3-NC
pins: 1 GND, 2 VREF_UART, 3 CTS, 4 RTS, 5 RXD, 6 TXD, 7 GND, 8 VREF_JTAG, 9 PS_SRST_B, 10 TCK, 11 TDO, 12 TDI, 13 TMS, 14 GND, 15 VDD, 16 USB_DM, 17 USB_DP, 18 VBUS_DETECT
text: JTAG; UART

## Jumper2
designator JP?  (value not drawn)
footprint PIN_HEADER_1x2
pins: 1 76, 2 75

## Jumper3
designator JP?  (value not drawn)
footprint PIN_HEADER_1X3
pins: 1 76, 2 75, 3 75

## Jumper4T
designator JP?
footprint PIN_HEADER_1X3T
pins: 1 76, 2 75, 3 75, 4 75

## JUMPER_SHORT
designator JMP?, comment JMP_SHORT  (mechanical)
CONN JUMPER SHORTING .100" GOLD; Supplier 1: Digi-Key; Supplier Part Number 1: S9337-ND

## L17H2220131
designator CON?
CONN D-SUB RCPT 9POS R/A SLDR; Supplier 1: Digi-Key; Supplier Part Number 1: L17H2220131-ND
footprint L17H2220131 (CONN D-SUB RCPT 9POS R/A SLDR)
part A pins: 1T, 2T, 3T, 4T, 5T, 6T, 7T, 8T, 9T
part B pins: 1B, 2B, 3B, 4B, 5B, 6B, 7B, 8B, 9B
part C pins: SH1, SH2, SH3, SH4

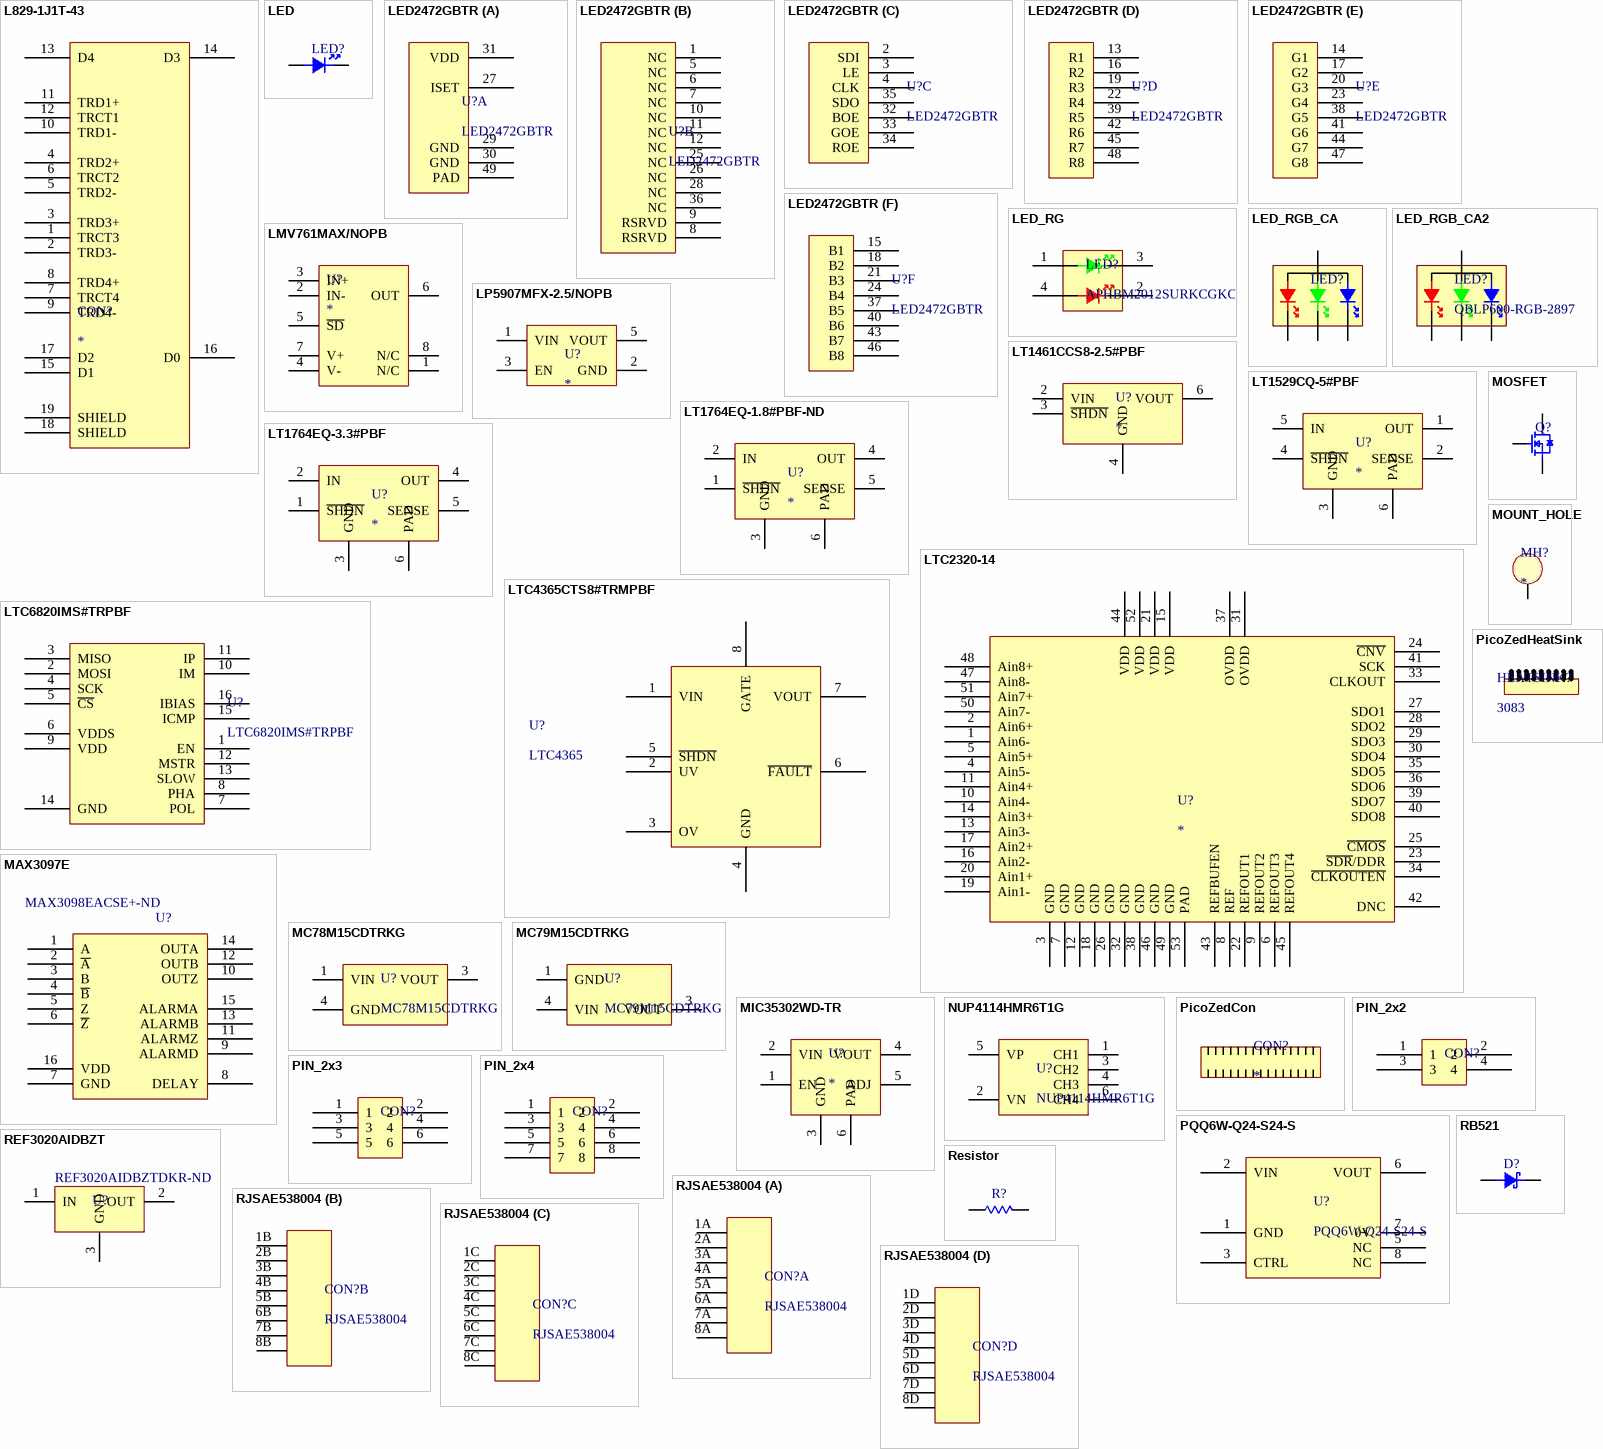
[diagram p2: symbols L829-1J1T-43 to RJSAE538004]

## L829-1J1T-43
designator CON?
Supplier 1: Digi-Key; Supplier Part Number 1: 380-1110-ND
footprint L829-1J1T-43 (CONN MAGJACK 1PORT 1000 BASE-T)
pins: 1 TRCT3, 2 TRD3-, 3 TRD3+, 4 TRD2+, 5 TRD2-, 6 TRCT2, 7 TRCT4, 8 TRD4+, 9 TRD4-, 10 TRD1-, 11 TRD1+, 12 TRCT1, 13 D4, 14 D3, 15 D1, 16 D0, 17 D2, 18 SHIELD, 19 SHIELD

## LED
designator LED?  (value not drawn)
footprint 0603-LED
pins: A, C

## LED2472GBTR
designator U?
IC LED DRIVER LINEAR 72MA 48TQFP; Supplier Part Number 1: 497-14188-1-ND; Supplier 1: Digi-Key
footprint TSQFP50P900X900X120_HS-49N (TSQFP, 48-Leads, Body 7.00x7.00mm, Pitch 0.50mm, Thermal Pad 4.00x4.00mm, IPC Medium Density)
part A pins: 27 ISET, 29 GND, 30 GND, 31 VDD, 49 PAD
part B pins: 1 NC, 5 NC, 6 NC, 7 NC, 8 RSRVD, 9 RSRVD, 10 NC, 11 NC, 12 NC, 25 NC, 26 NC, 28 NC, 36 NC
part C pins: 2 SDI, 3 LE, 4 CLK, 32 BOE, 33 GOE, 34 ROE, 35 SDO
part D pins: 13 R1, 16 R2, 19 R3, 22 R4, 39 R5, 42 R6, 45 R7, 48 R8
part E pins: 14 G1, 17 G2, 20 G3, 23 G4, 38 G5, 41 G6, 44 G7, 47 G8
part F pins: 15 B1, 18 B2, 21 B3, 24 B4, 37 B5, 40 B6, 43 B7, 46 B8

## LED_RG
designator LED?, comment APHBM2012SURKCGKC
LED GREEN/RED CLEAR 2012 SMD; Supplier 1: Digi-Key; Supplier Part Number 1: 754-1093-1-ND
footprint APHBM2012SURKCGKC (LED GREEN/RED CLEAR 2012 SMD)
pins: 1 RA, 2 RC, 3 GC, 4 GA

## LED_RGB_CA
designator LED?  (value not drawn)
Supplier 1: Digi-Key; Supplier Part Number 1: 492-1243-2-ND
footprint 1210-LED-RGB-CA
pins: 1 A, 2 CR, 3 CG, 4 CB

## LED_RGB_CA2
designator LED?, comment QBLP600-RGB-2897
0606 RED GREEN BLUE (RGB) HIGH B; Supplier 1: Digi-Key; Supplier Part Number 1: 1516-1366-1-ND
footprint QBLP600-RGB-2897 (0606 RED GREEN BLUE (RGB) HIGH B)
pins: 1 CB, 2 CG, 3 A, 4 CR

## LMV761MAX/NOPB
designator U?
IC COMP PREC PUSH-PULL OUT 8SOIC; Supplier 1: Digi-Key; Supplier Part Number 1: 296-48599-1-ND
footprint SOIC127P600X175-8N (SOIC, 8-Leads, Body 4.90x3.90mm, Pitch 1.27mm, IPC Medium Density)
pins: 1 N/C, 2 IN-, 3 IN+, 4 V-, 5 ~{SD}, 6 OUT, 7 V+, 8 N/C

## LP5907MFX-2.5/NOPB
designator U?
IC REG LINEAR 2.5V 250MA SOT23; Supplier 1: Digi-Key; Supplier Part Number 1: 296-40356-2-ND
footprint SOT23-5 (SOT-23/SC-74A; 5 Leads; Body 3 x 3 mm, inc. leads (LxW max))
pins: 1 VIN, 2 GND, 3 EN, 5 VOUT

## LT1461CCS8-2.5#PBF
designator U?
IC VREF SERIES 2.5V 8SOIC; Supplier 1: Digi-Key; Supplier Part Number 1: LT1461CCS8-2.5#PBF-ND
footprint SOIC8_N (8-Pin Small Outline Integrated Circuit Package (SOIC8), IPC Medium Density)
pins: 2 VIN, 3 ~{SHDN}, 4 GND, 6 VOUT

## LT1529CQ-5#PBF
designator U?
IC REG LINEAR 5V 3A 5DDPAK; Supplier 1: Digi-Key; Supplier Part Number 1: LT1529CQ-5#PBF-ND
footprint 5-DDPAK (Q PACKAGE  5-LEAD PLASTIC DD)
pins: 1 OUT, 2 SENSE, 3 GND, 4 ~{SHDN}, 5 IN, 6 PAD

## LT1764EQ-1.8#PBF-ND
designator U?
IC REG LINEAR 1.8V 3A 5DDPAK; Supplier 1: Digi-Key; Supplier Part Number 1: LT1764EQ-1.8#PBF-ND
footprint 5-DDPAK (Q PACKAGE  5-LEAD PLASTIC DD)
pins: 1 ~{SHDN}, 2 IN, 3 GND, 4 OUT, 5 SENSE, 6 PAD

## LT1764EQ-3.3#PBF
designator U?
IC REG LINEAR 3.3V 3A 5DDPAK; Supplier 1: Digi-Key; Supplier Part Number 1: LT1764EQ-3.3#PBF-ND
footprint 5-DDPAK (Q PACKAGE  5-LEAD PLASTIC DD)
pins: 1 ~{SHDN}, 2 IN, 3 GND, 4 OUT, 5 SENSE, 6 PAD

## LTC2320-14
designator U?
IC ADC 14BIT 1.5MSPS SAR 52QFN - 14 Bit Analog to Digital Converter 8 Input 4 SAR 52-QFN (7x8); Supplier 1: Digi-Key; Supplier Part Number 1: LTC2320CUKG-14#PBF-ND
footprint QFN52 (Small 52-Lead (7mm × 8mm) QFN Package)
pins: 1 Ain6-, 2 Ain6+, 3 GND, 4 Ain5-, 5 Ain5+, 6 REFOUT3, 7 GND, 8 REF, 9 REFOUT2, 10 Ain4-, 11 Ain4+, 12 GND, 13 Ain3-, 14 Ain3+, 15 VDD, 16 Ain2-, 17 Ain2+, 18 GND, 19 Ain1-, 20 Ain1+, 21 VDD, 22 REFOUT1, 23 ~{SDR}/DDR, 24 ~{CNV}, 25 ~{CMOS}, 26 GND, 27 SDO1, 28 SDO2, 29 SDO3, 30 SDO4, 31 OVDD, 32 GND, 33 CLKOUT, 34 ~{CLKOUTEN}, 35 SDO5, 36 SDO6, 37 OVDD, 38 GND, 39 SDO7, 40 SDO8, 41 SCK, 42 DNC, 43 REFBUFEN, 44 VDD, 45 REFOUT4, 46 GND, 47 Ain8-, 48 Ain8+, 49 GND, 50 Ain7-, 51 Ain7+, 52 VDD, 53 PAD

## LTC4365CTS8#TRMPBF
designator U?, comment LTC4365
IC OVERVOLTAGE PROT TSOT23-8; Supplier 1: Digi-Key; Supplier Part Number 1: LTC4365CTS8#TRMPBFCT-ND
footprint TSOP65P280X100-8N (TSOP, 8-Leads, Body 2.90x1.60mm, Pitch 0.65mm, IPC Medium Density)
pins: 1 VIN, 2 UV, 3 OV, 4 GND, 5 ~{SHDN}, 6 ~{FAULT}, 7 VOUT, 8 GATE

## LTC6820IMS#TRPBF
designator U?
IC INTERFACE SPECIALIZED 16MSOP; Supplier 1: Digi-Key; Supplier Part Number 1: LTC6820IMS#TRPBFCT-ND
footprint TSSOP50P490X110-16N (TSSOP, 16-Leads, Body 4.00x3.00mm, Pitch 0.50mm, IPC Medium Density)
pins: 1 EN, 2 MOSI, 3 MISO, 4 SCK, 5 ~{CS}, 6 VDDS, 7 POL, 8 PHA, 9 VDD, 10 IM, 11 IP, 12 MSTR, 13 SLOW, 14 GND, 15 ICMP, 16 IBIAS

## MAX3097E
designator U?  Supplier Part Number 1: MAX3098EACSE+-ND
IC RS485/422 RX 32MBPS 16-QSOP; Supplier 1: Digi-Key
footprint SOIC16_N (SOIC, 16-Leads, Body 9.9x3.9mm, Pitch 1.27mm, IPC Medium Density)
pins: 1 A, 2 ~{A}, 3 B, 4 ~{B}, 5 Z, 6 ~{Z}, 7 GND, 8 DELAY, 9 ALARMD, 10 OUTZ, 11 ALARMZ, 12 OUTB, 13 ALARMB, 14 OUTA, 15 ALARMA, 16 VDD

## MC78M15CDTRKG
designator U?
IC REG LINEAR 15V 500MA DPAK; Supplier 1: Digi-Key; Supplier Part Number 1: MC78M15CDTRKGOSCT-ND
footprint DPAK229P991X238-3N (D-PAK, 3-Pads, Body 6.21x6.73mm (max), IPC Medium Density)
pins: 1 VIN, 3 VOUT, 4 GND

## MC79M15CDTRKG
designator U?
IC REG LINEAR -15V 500MA DPAK; Supplier 1: Digi-Key; Supplier Part Number 1: MC79M15CDTRKGOSCT-ND
footprint DPAK229P991X238-3N (D-PAK, 3-Pads, Body 6.21x6.73mm (max), IPC Medium Density)
pins: 1 GND, 3 VOUT, 4 VIN

## MIC35302WD-TR
designator U?
IC REG LINEAR POS ADJ 3A TO252-5; Supplier 1: Digi-Key; Supplier Part Number 1: 576-3614-2-ND
footprint TO-252-5 (5-pin TO-252-5)
pins: 1 EN, 2 VIN, 3 GND, 4 VOUT, 5 ADJ, 6 PAD

## MOSFET
designator Q?  (value not drawn)
Supplier 1: Digi-Key; Supplier Part Number 1: FDV301NCT-ND
footprint SOT95P245X110-3N (SOT23, 3-Leads, Body 2.95x2.45mm, Pitch 0.95mm, IPC Medium Density)
pins: 1 G, 2 S, 3 D

## MOUNT_HOLE
designator MH?
MOUNTING HOLE
footprint MOUNTING_HOLE
pins: 1

## NUP4114HMR6T1G
designator U?
TVS DIODE 5.5V 10V 6TSOP; Supplier 1: Digi-Key; Supplier Part Number 1: NUP4114HMR6T1GOSCT-ND
footprint TSOP95P280X110-6N (TSOP, 6-Leads, Body 3.00x1.50mm, Pitch 0.95mm, IPC Medium Density)
pins: 1 CH1, 2 VN, 3 CH2, 4 CH3, 5 VP, 6 CH4

## PicoZedCon
designator CON?
CONN HEADER 100POS .8MM DUAL SMD; Supplier 1: Digi-Key; Supplier Part Number 1: 609-1693-1-ND

## PicoZedHeatSink
designator HEATSINK?, comment 3083  (mechanical)
ALUM HEAT SINK FOR RASPBERRY PI; Supplier 1: Digi-Key; Supplier Part Number 1: 1528-1697-ND

## PIN_2x2
designator CON?  (value not drawn)
Supplier 1: Digi-Key; Supplier Part Number 1: 609-3390-ND
footprint PIN_HEADER_2x2
pins: 1, 2, 3, 4

## PIN_2x3
designator CON?  (value not drawn)
footprint PIN_HEADER_2x3
pins: 1, 2, 3, 4, 5, 6

## PIN_2x4
designator CON?  (value not drawn)
footprint PIN_HEADER_2x4
pins: 1, 2, 3, 4, 5, 6, 7, 8

## PQQ6W-Q24-S24-S
designator U?
DC-DC ISOLATED, 6 W, 9~36 VDC IN; Supplier 1: Digi-Key; Supplier Part Number 1: 102-PQQ6W-Q24-S24-S-ND
footprint PQQ6W-Q24-S24-S (DC-DC ISOLATED, 6 W, 9~36 VDC IN)
pins: 1 GND, 2 VIN, 3 CTRL, 5 NC, 6 VOUT, 7 0V, 8 NC

## RB521
designator D?  (value not drawn)
DIODE SCHOTTKY 30V 200MA SOD523; Supplier 1: Digi-Key; Supplier Part Number 1: RB521S30T1GOSTR-ND
footprint SOD-523
pins: A, C

## REF3020AIDBZT
designator U?  Supplier Part Number 1: REF3020AIDBZTDKR-ND  (hidden comment: *)
Series Voltage Reference IC ±0.2% 25mA SOT-23-3; Supplier 1: Digi-Key
footprint SOT23-3 (SOT23, 3-Leads, Body 2.9x1.3mm, Pitch 0.95mm, Lead Span 2.3mm - Reverse Pinning, IPC High Density)
pins: 1 IN, 2 OUT, 3 GND

## Resistor
designator R?  (value not drawn)
simulation model RES (Resistor)
footprint 0603-RES
pins: 1, 2

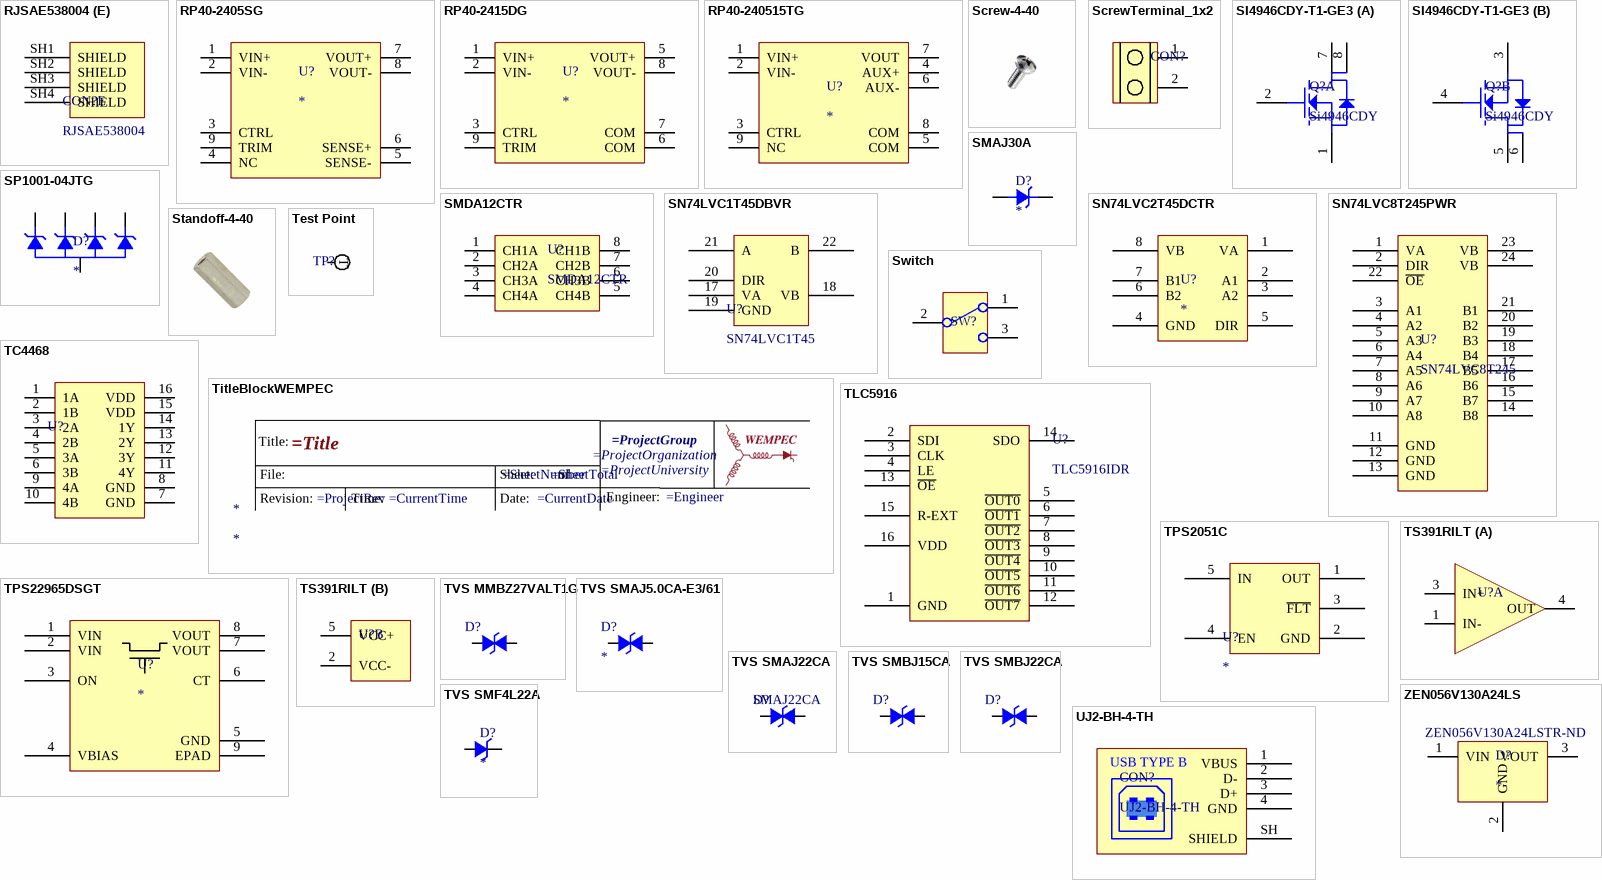
[diagram p3: symbols RJSAE538004 to ZEN056V130A24LS]

## RJSAE538004
designator CON?
CONN MOD JACK 8P8C R/A SHIELDED; Supplier 1: Digi-Key; Supplier Part Number 1: RJSAE538004-ND
footprint RJSAE538004 (CONN MOD JACK 8P8C R/A SHIELDED)
part A pins: 1A 79, 2A 79, 3A 79, 4A 79, 5A 79, 6A 79, 7A 79, 8A 79
part B pins: 1B 79, 2B 79, 3B 79, 4B 79, 5B 79, 6B 79, 7B 79, 8B 79
part C pins: 1C 79, 2C 79, 3C 79, 4C 79, 5C 79, 6C 79, 7C 79, 8C 79
part D pins: 1D 79, 2D 79, 3D 79, 4D 79, 5D 79, 6D 79, 7D 79, 8D 79
part E pins: SH1 SHIELD, SH2 SHIELD, SH3 SHIELD, SH4 SHIELD

## RP40-2405SG
designator U?
CONV DC/DC 40W 18-36VIN 05VOUT; Supplier 1: Digi-Key; Supplier Part Number 1: 945-2397-5-ND
footprint RP40-G (CONV DC/DC)
pins: 1 VIN+, 2 VIN-, 3 CTRL, 4 NC, 5 SENSE-, 6 SENSE+, 7 VOUT+, 8 VOUT-, 9 TRIM

## RP40-2415DG
designator U?
CONV DC/DC 40W 9-36VIN +/-15VOUT; Supplier 1: Digi-Key; Supplier Part Number 1: RP40-2415DGW-ND
footprint RP40-G (CONV DC/DC)
pins: 1 VIN+, 2 VIN-, 3 CTRL, 5 VOUT+, 6 COM, 7 COM, 8 VOUT-, 9 TRIM

## RP40-240515TG
designator U?
CONV DC/DC 40W 18-36VIN 5 +/-15V; Supplier 1: Digi-Key; Supplier Part Number 1: RP40-240515TG-ND
footprint RP40-G (CONV DC/DC)
pins: 1 VIN+, 2 VIN-, 3 CTRL, 4 AUX+, 5 COM, 6 AUX-, 7 VOUT, 8 COM, 9 NC

## Screw-4-40
designator SCREW?  (value not drawn)
Supplier 1: Digi-Key; Supplier Part Number 1: KEY1046-ND

## ScrewTerminal_1x2
designator CON?  (value not drawn)
Supplier 1: Digi-Key; Supplier Part Number 1: 277-1667-ND
footprint 1935161 (TERM BLOCK PCB 2POS 5.0MM GREEN)
pins: 1 12, 2 13

## SI4946CDY-T1-GE3
designator Q?, comment Si4946CDY
MOSFET N-CHAN DUAL 60V SO-8; Supplier 1: Digi-Key; Supplier Part Number 1: SI4946CDY-T1-GE3DKR-ND
footprint SOIC127P600X175-8N (SOIC, 8-Leads, Body 4.90x3.90mm, Pitch 1.27mm, IPC Medium Density)
part A pins: 1 S1, 2 G1, 7 D1, 8 D1
part B pins: 3 S2, 4 G2, 5 D2, 6 D2

## SMAJ30A
designator D?
Supplier 1: Digi-Key; Supplier Part Number 1: SMAJ30ALFTR-ND
footprint DO-214AC
pins: A, C

## SMDA12CTR
designator U?
TVS DIODE 12V 19V 8SO; Supplier 1: Digi-Key; Supplier Part Number 1: 1655-1701-1-ND
footprint SOIC127P600X175-8N (SOIC, 8-Leads, Body 4.90x3.90mm, Pitch 1.27mm, IPC Medium Density)
pins: 1 CH1A, 2 CH2A, 3 CH3A, 4 CH4A, 5 CH4B, 6 CH3B, 7 CH2B, 8 CH1B

## SN74LVC1T45DBVR
designator U?, comment SN74LVC1T45
IC TRNSLTR BIDIRECTIONAL SOT23-6; Supplier 1: Digi-Key; Supplier Part Number 1: 296-16843-1-ND
footprint SOT95P280X145-6N (SOT23, 6-Leads, Body 2.90x2.80mm, Pitch 0.95mm, IPC Medium Density)
pins: 17 VA, 18 VB, 19 GND, 20 DIR, 21 A, 22 B

## SN74LVC2T45DCTR
designator U?
IC BUS TRANSCVR 2BIT N-INV SM8; Supplier 1: Digi-Key; Supplier Part Number 1: 296-16845-2-ND
footprint SM8
pins: 1 VA, 2 A1, 3 A2, 4 GND, 5 DIR, 6 B2, 7 B1, 8 VB

## SN74LVC8T245PWR
designator U?, comment SN74LVC8T245
IC BUS TRANSCVR 8BIT 24TSSOP; Supplier 1: Digi-Key; Supplier Part Number 1: 296-18593-1-ND
footprint TSOP65P640X120-24N (TSOP, 24-Leads, Body 7.80x4.40mm, Pitch 0.65mm, IPC Medium Density)
pins: 1 VA, 2 DIR, 3 A1, 4 A2, 5 A3, 6 A4, 7 A5, 8 A6, 9 A7, 10 A8, 11 GND, 12 GND, 13 GND, 14 B8, 15 B7, 16 B6, 17 B5, 18 B4, 19 B3, 20 B2, 21 B1, 22 ~{OE}, 23 VB, 24 VB

## SP1001-04JTG
designator D?
TVS DIODE 5.5V 13V SC70-5; Supplier 1: Digi-Key; Supplier Part Number 1: F2895TR-ND
footprint SC70-5
pins: 1 C1, 2 A, 3 C3, 4 C4, 5 C2

## Standoff-4-40
designator STANDOFF?  (value not drawn)
Supplier 1: Digi-Key; Supplier Part Number 1: 36-1656-ND

## Switch
designator SW?  (value not drawn)
pins: 1 77, 2 77, 3 77

## TC4468
designator U?
IC MOSFET DVR QUAD AND 16SOIC; Supplier 1: Digi-Key; Supplier Part Number 1: TC4468COE-ND
footprint SOIC16_N - wide (ISO5452)
pins: 1 1A, 2 1B, 3 2A, 4 2B, 5 3A, 6 3B, 7 GND, 8 GND, 9 4A, 10 4B, 11 4Y, 12 3Y, 13 2Y, 14 1Y, 15 VDD, 16 VDD

## Test Point
designator TP?  (value not drawn)
Material - Insulation: No Insulation; Supplier Part Number: *; Supplier: *; Footprint: *; Supplier 1: Digi-Key; RoHS: RoHS Compliant; Category: Test and Measurement; Stock 1: 136646; Pricing 1: 1=0.22, 10=0.206, 25=0.1756, 50=0.1536, 100=0.1426, 250=0.12616, 500=0.12068, 1000=0.09874 (USD); Packaging: Cut Tape (CT); Part Status: Active; Type: PC Test Point; Mounting Type: Surface Mount; Color: Natural; Size / Dimension: 0.063" x 0.031" x 0.045" (1.60mm x 0.80mm x 1.15mm); Plating: -; Material - Body: -; ComponentLink1URL: http://www.te.com/commerce/DocumentDelivery/DDEController?Action=srchrtrv&DocNm=1773266&DocType=DS&DocLang=English; ComponentLink1Description: http://www.te.com/commerce/DocumentDelivery/DDEController?Action=srchrtrv&DocNm=1773266&DocType=DS&DocLang=English; Supplier Part Number 1: A106145CT-ND
footprint TEST_POINT (Small test point)
footprint RCU-0C (0603 PROBE PAD)
pins: 1
text: T

## TitleBlockWEMPEC
designator *
text: Title:; File:; Sheet:; of; Engineer:; Revision:; Time:; Date:

## TLC5916
designator U?, comment TLC5916IDR
IC LED DRIVER LIN 120MA 16SOIC; Supplier 1: Digi-Key; Supplier Part Number 1: 296-22710-1-ND
footprint SOIC127P600X175-16N (SOIC, 16-Leads, Body 9.90x3.90mm, Pitch 1.27mm, IPC Medium Density)
pins: 1 GND, 2 SDI, 3 CLK, 4 LE, 5 ~{OUT0}, 6 ~{OUT1}, 7 ~{OUT2}, 8 ~{OUT3}, 9 ~{OUT4}, 10 ~{OUT5}, 11 ~{OUT6}, 12 ~{OUT7}, 13 ~{OE}, 14 SDO, 15 R-EXT, 16 VDD

## TPS2051C
designator U?
IC USB PWR SW 1CH 0.5A SOT23-5; Supplier 1: Digi-Key; Supplier Part Number 1: 296-29537-1-ND
footprint SOT23-5 (SOT143-4 as used in SP0503BAHTG)
pins: 1 OUT, 2 GND, 3 ~{FLT}, 4 EN, 5 IN

## TPS22965DSGT
designator U?
IC LOAD SWITCH 6A 8WSON; Supplier 1: Digi-Key; Supplier Part Number 1: 296-34943-1-ND
footprint SON50P200X80_HS-9N (SON, 8-Leads, Body 2.00x2.00mm, Pitch 0.50mm, Thermal Pad 1.60x0.69mm, IPC Medium Density)
pins: 1 VIN, 2 VIN, 3 ON, 4 VBIAS, 5 GND, 6 CT, 7 VOUT, 8 VOUT, 9 EPAD

## TS391RILT
designator U?  (value not drawn)
IC COMPARATOR SGL LP SOT-23-5; Supplier 1: Digi-Key; Supplier Part Number 1: 497-11276-1-ND
part A pins: 1 IN-, 3 IN+, 4 OUT
part B pins: 2 VCC-, 5 VCC+

## TVS MMBZ27VALT1G
designator D?  (value not drawn)
TVS DIODE 22V 40V SOT23-3; Manufacturer: Littelfuse; Manufacturer Part Number: SMBJ22CA; Max Surge Current: 16.9A; Clamping Voltage: 35.5V; Peak Pulse Power: 600W; Breakdown Voltage: 24.4V; Number of Channels: 1; Polarity: Bidirectional; Power Line Protection: No; Test Current: 1mA; Max Breakdown Voltage: 26.9V; ESD Protection: Yes; Max Power Dissipation: 5W; Element Configuration: Single; Leakage Current: 1uA; Mount: Surface Mount; Case/Package: SMB; Number of Pins: 2; Min Operating Temperature: -55°C; Max Operating Temperature: 150°C; Package Quantity: 3000; Packaging: Tape and Reel; Operating Supply Voltage: 22V; Voltage Rating (DC): 22V; Number of Bidirectional Channels: 1; Reverse Standoff Voltage: 22V; Min Breakdown Voltage: 24.4V; Termination: SMD/SMT; Peak Pulse Current: 16.9A; Power Dissipation: 600W; Composition: Zener; Direction: Bidirectional; Reverse Breakdown Voltage: 24.4V; Number of Elements: 1; Length: 0.179inch; Height: 0.096inch; Width: 0.155inch; Lead Free: Lead Free; REACH SVHC: Unknown
pins: 1, 2

## TVS SMAJ5.0CA-E3/61
designator D?
TVS DIODE 5V 9.2V DO214AC; Supplier 1: Digi-Key; Supplier Part Number 1: SMAJ5.0CA-E3/61GICT-ND
footprint SMA (DO-214-AC/SMA; 2 C-Bend Leads; Body 5 x 2.7 mm, inc. leads (LxW))
pins: 1, 2

## TVS SMAJ22CA
designator D?  Manufacturer Part Number: SMAJ22CA  (hidden comment: *)
TVS DIODE 22V 35.5V SMA; Manufacturer: Bourns; Direction: Bidirectional; Reverse Breakdown Voltage: 24.4V; Operating Supply Voltage: 3.5V; Max Surge Current: 40A; Number of Bidirectional Channels: 1; Peak Pulse Power: 400W; Power Line Protection: No; Breakdown Voltage: 26.9V; Peak Pulse Current: 11.2A; Test Current: 1mA; Max Reverse Leakage Current: 5uA; Element Configuration: Single; ComponentLink1URL: https://datasheet.ciiva.com/333/smaj-333520.pdf; ComponentLink1Description: https://datasheet.ciiva.com/333/smaj-333520.pdf; ComponentLink2URL: https://datasheet.ciiva.com/3022/smaj-3022225.pdf; ComponentLink2Description: https://datasheet.ciiva.com/3022/smaj-3022225.pdf; ComponentLink3URL: https://datasheet.ciiva.com/17413/smaj-17413512.pdf; ComponentLink3Description: https://datasheet.ciiva.com/17413/smaj-17413512.pdf; ComponentLink4URL: https://datasheet.ciiva.com/4509/smaj-74970-4509930.pdf; ComponentLink4Description: https://datasheet.ciiva.com/4509/smaj-74970-4509930.pdf; ComponentLink5URL: https://datasheet.ciiva.com/333/smaj-333518.pdf; ComponentLink5Description: https://datasheet.ciiva.com/333/smaj-333518.pdf; ComponentLink6URL: https://datasheet.ciiva.com/333/smaj-333519.pdf; ComponentLink6Description: https://datasheet.ciiva.com/333/smaj-333519.pdf; Supplier 1: Digi-Key; Stock 1: 24429; Pricing 1: 1=0.45, 10=0.353, 25=0.2976, 100=0.2421, 250=0.2006, 500=0.16602, 1000=0.12451, 2500=0.11414 (USD); Mount: Surface Mount; Case/Package: SMA; Number of Pins: 2; Min Operating Temperature: -55°C; Max Operating Temperature: 150°C; Packaging: Tape and Reel; Package Quantity: 1; Reverse Standoff Voltage: 22V; Min Breakdown Voltage: 24.4V; Clamping Voltage: 35.5V; Number of Channels: 1; Polarity: Bidirectional; Termination: SMD/SMT; Number of Elements: 1; Leakage Current: 5uA; Composition: Zener; Radiation Hardening: No; ComponentLink7URL: https://datasheet.ciiva.com/3022/smaj-3022227.pdf; ComponentLink7Description: https://datasheet.ciiva.com/3022/smaj-3022227.pdf; ComponentLink8URL: https://datasheet.ciiva.com/3022/smaj-3022228.pdf; ComponentLink8Description: https://datasheet.ciiva.com/3022/smaj-3022228.pdf; ComponentLink9URL: https://datasheet.ciiva.com/334/smaj-334501.pdf; ComponentLink9Description: https://datasheet.ciiva.com/334/smaj-334501.pdf; ComponentLink10URL: https://datasheet.ciiva.com/334/smaj-334502.pdf; ComponentLink10Description: https://datasheet.ciiva.com/334/smaj-334502.pdf; ComponentLink11URL: https://datasheet.ciiva.com/334/smaj-334503.pdf; ComponentLink11Description: https://datasheet.ciiva.com/334/smaj-334503.pdf; Supplier Part Number 1: SMAJ22CABDKR-ND
footprint SMA (DO-214-AC/SMA; 2 C-Bend Leads; Body 5 x 2.7 mm, inc. leads (LxW))
pins: 1, 2

## TVS SMBJ15CA
designator D?  (value not drawn)
TVS DIODE 15V 24.4V DO214AA; Manufacturer: Littelfuse; Manufacturer Part Number: SMBJ15CA; Power Dissipation: 600W; Min Breakdown Voltage: 16.7V; Peak Pulse Current: 24.6A; Test Current: 1mA; Direction: Bidirectional; Number of Channels: 1; Max Reverse Leakage Current: 1uA; Max Breakdown Voltage: 18.5V; Power Line Protection: No; ESD Protection: Yes; Max Power Dissipation: 5W; Element Configuration: Single; Supplier 1: Digi-Key; Stock 1: 32341; Pricing 1: 1=0.53, 10=0.416, 25=0.3508, 100=0.2855, 250=0.2366, 500=0.1958, 1000=0.14685 (USD); Mount: Surface Mount; Case/Package: SMB; Number of Pins: 2; Min Operating Temperature: -65°C; Max Operating Temperature: 150°C; Packaging: Tape and Reel; Voltage Rating (DC): 15V; Reverse Standoff Voltage: 15V; Clamping Voltage: 24.4V; Peak Pulse Power: 600W; Package Quantity: 3000; Operating Supply Voltage: 15V; Max Surge Current: 24.6A; Breakdown Voltage: 16.7V; Polarity: Bidirectional; Termination: SMD/SMT; Leakage Current: 1uA; Reverse Breakdown Voltage: 16.7V; Number of Elements: 1; Number of Bidirectional Channels: 1; Composition: Zener; Length: 0.179inch; Height: 0.096inch; Width: 0.155inch; Radiation Hardening: No; Lead Free: Lead Free; REACH SVHC: Unknown; ComponentLink1URL: https://datasheet.ciiva.com/14162/smbj-eng-ds-14162022.pdf; ComponentLink1Description: https://datasheet.ciiva.com/14162/smbj-eng-ds-14162022.pdf; ComponentLink2URL: https://datasheet.ciiva.com/14536/70184822-14536007.pdf; ComponentLink2Description: https://datasheet.ciiva.com/14536/70184822-14536007.pdf; ComponentLink3URL: https://datasheet.ciiva.com/331/littelfuse-tvs-diode-smbj-datasheet-pdf-331640.pdf; ComponentLink3Description: https://datasheet.ciiva.com/331/littelfuse-tvs-diode-smbj-datasheet-pdf-331640.pdf; ComponentLink4URL: https://datasheet.ciiva.com/331/littelfuse-tvs-diode-smbj-datasheet-pdf-331641.pdf; ComponentLink4Description: https://datasheet.ciiva.com/331/littelfuse-tvs-diode-smbj-datasheet-pdf-331641.pdf; ComponentLink5URL: https://datasheet.ciiva.com/331/littelfuse-tvs-diode-smbj-datasheet-pdf-331642.pdf; ComponentLink5Description: https://datasheet.ciiva.com/331/littelfuse-tvs-diode-smbj-datasheet-pdf-331642.pdf; ComponentLink6URL: https://datasheet.ciiva.com/16218/littelfuse-tvs-diode-smbj-16218331.pdf; ComponentLink6Description: https://datasheet.ciiva.com/16218/littelfuse-tvs-diode-smbj-16218331.pdf; ComponentLink7URL: https://datasheet.ciiva.com/25624/0900766b810f4eeb-25624717.pdf; ComponentLink7Description: https://datasheet.ciiva.com/25624/0900766b810f4eeb-25624717.pdf; ComponentLink8URL: https://datasheet.ciiva.com/4510/littelfuse-tvs-diode-smbj-48653-4510046.pdf; ComponentLink8Description: https://datasheet.ciiva.com/4510/littelfuse-tvs-diode-smbj-48653-4510046.pdf; Supplier Part Number 1: SMBJ15CALFDKR-ND
footprint SMB (DO-214-AA/SMB; 2 C-Bend Leads; Body 5.3 x 3.6 mm, inc. leads (LxW))
pins: A, C

## TVS SMBJ22CA
designator D?  (value not drawn)
TVS DIODE 22V 35.5V DO214AA; Manufacturer: Littelfuse; Manufacturer Part Number: SMBJ22CA; Max Surge Current: 16.9A; Peak Pulse Power: 600W; Breakdown Voltage: 24.4V; Number of Channels: 1; Polarity: Bidirectional; Power Line Protection: No; Test Current: 1mA; Max Breakdown Voltage: 26.9V; ESD Protection: Yes; Max Power Dissipation: 5W; Element Configuration: Single; Leakage Current: 1uA; Supplier 1: Digi-Key; Stock 1: 15592; Pricing 1: 1=0.58, 10=0.458, 25=0.386, 100=0.3141, 250=0.26024, 500=0.21538, 1000=0.16154 (USD); Mount: Surface Mount; Case/Package: SMB; Number of Pins: 2; Min Operating Temperature: -55°C; Max Operating Temperature: 150°C; Package Quantity: 3000; Packaging: Tape and Reel; Operating Supply Voltage: 22V; Clamping Voltage: 35.5V; Voltage Rating (DC): 22V; Number of Bidirectional Channels: 1; Reverse Standoff Voltage: 22V; Min Breakdown Voltage: 24.4V; Termination: SMD/SMT; Peak Pulse Current: 16.9A; Power Dissipation: 600W; Composition: Zener; Direction: Bidirectional; Reverse Breakdown Voltage: 24.4V; Number of Elements: 1; Length: 0.179inch; Height: 0.096inch; Width: 0.155inch; Lead Free: Lead Free; REACH SVHC: Unknown; ComponentLink1URL: https://datasheet.ciiva.com/331/littelfuse-tvs-diode-smbj-datasheet-pdf-331600.pdf; ComponentLink1Description: https://datasheet.ciiva.com/331/littelfuse-tvs-diode-smbj-datasheet-pdf-331600.pdf; ComponentLink2URL: https://datasheet.ciiva.com/14162/smbj-eng-ds-14162024.pdf; ComponentLink2Description: https://datasheet.ciiva.com/14162/smbj-eng-ds-14162024.pdf; ComponentLink3URL: https://datasheet.ciiva.com/8062/littelfuse-tvs-diode-smbj-8062316.pdf; ComponentLink3Description: https://datasheet.ciiva.com/8062/littelfuse-tvs-diode-smbj-8062316.pdf; ComponentLink4URL: https://datasheet.ciiva.com/16487/littelfuse-tvs-diode-smbj-16487596.pdf; ComponentLink4Description: https://datasheet.ciiva.com/16487/littelfuse-tvs-diode-smbj-16487596.pdf; ComponentLink5URL: https://datasheet.ciiva.com/331/littelfuse-tvs-diode-smbj-datasheet-pdf-331598.pdf; ComponentLink5Description: https://datasheet.ciiva.com/331/littelfuse-tvs-diode-smbj-datasheet-pdf-331598.pdf; ComponentLink6URL: https://datasheet.ciiva.com/331/littelfuse-tvs-diode-smbj-datasheet-pdf-331599.pdf; ComponentLink6Description: https://datasheet.ciiva.com/331/littelfuse-tvs-diode-smbj-datasheet-pdf-331599.pdf; Supplier Part Number 1: SMBJ22CALFDKR-ND
footprint SMB (DO-214-AA/SMB; 2 C-Bend Leads; Body 5.3 x 3.6 mm, inc. leads (LxW))
pins: 1, 2

## TVS SMF4L22A
designator D?
TVS DIODE 22V 35.5V SOD123FL; Manufacturer: Littelfuse; Manufacturer Part Number: SMF4L22A; Supplier 1: Digi-Key; Stock 1: 11919; Pricing 1: 1=0.53, 10=0.416, 25=0.3508, 100=0.2855, 250=0.2366, 500=0.1958, 1000=0.14685 (USD); ComponentLink1URL: http://www.littelfuse.com/~/media/electronics/product_catalogs/littelfuse_product_selection_guide.pdf.pdf; ComponentLink1Description: http://www.littelfuse.com/~/media/electronics/product_catalogs/littelfuse_product_selection_guide.pdf.pdf; Supplier Part Number 1: F7468CT-ND
footprint SOD123
pins: 1, 2

## UJ2-BH-4-TH
designator CON?
CONN RCPT USB2.0 TYPEB 4POS R/A; Supplier 1: Digi-Key; Supplier Part Number 1: 102-5885-ND
footprint UJ2-BH-4-TH (CONN RCPT USB2.0 TYPEB 4POS R/A)
pins: 1 VBUS, 2 D-, 3 D+, 4 GND, SH SHIELD
text: USB TYPE B

## ZEN056V130A24LS
designator D?  Supplier Part Number 1: ZEN056V130A24LSTR-ND
Supplier 1: Digi-Key
footprint ZEN056V130A24LSCT-ND
pins: 1 VIN, 2 GND, 3 VOUT